# EAGLE library part LV8548MC-AH (library FA3D_lib)
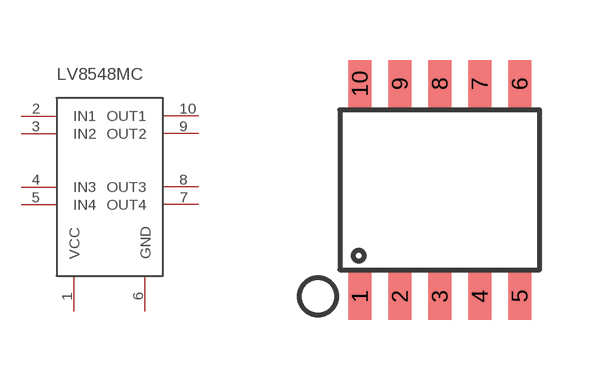
[diagram p6: symbol with the pads of 10-SOP; footprint 10-SOP]

Designator prefix -

## LV8548MC-AH  [10-SOP]
1  VCC  out
2  IN1  out
3  IN2  out
4  IN3  out
5  IN4  out
6  GND  out
7  OUT4  out
8  OUT3  out
9  OUT2  out
10  OUT1  out

## Footprint 10-SOP (pad centres in mm)
smd 0.58 x 1.18: 1 -2,-2.66; 2 -1,-2.66; 3 0,-2.66; 4 1,-2.66; 5 2,-2.66; 6 2,2.66; 7 1,2.66; 8 0,2.66; 9 -1,2.66; 10 -2,2.66